# EAGLE library part CON-EDGE-M-16X2 (library Custom)
Male 18x2 PCB Edge connector
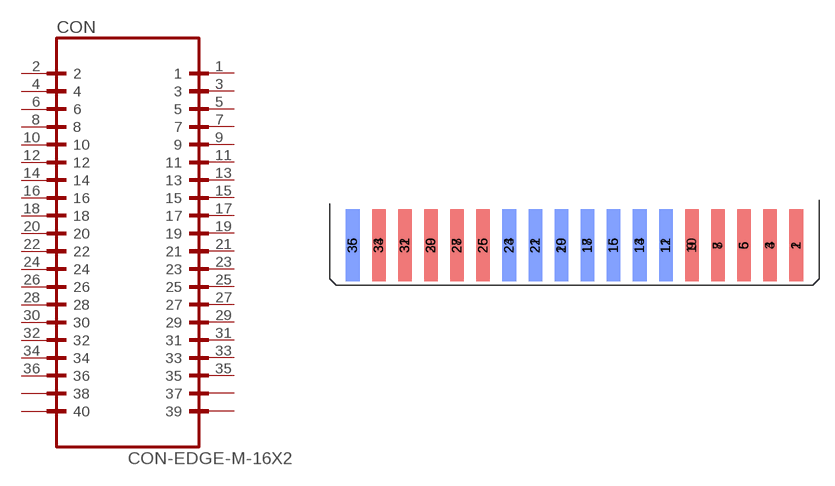
[diagram p0: symbol with the pads of PCB_EDGE_CONNECTOR_16X2; footprint PCB_EDGE_CONNECTOR_16X2]

Designator prefix CON

## CON-EDGE-M-16X2  [PCB_EDGE_CONNECTOR_16X2]
1  1  pwr
2  2  pwr
3  3
4  4
5  5
6  6
7  7
8  8
9  9
10  10
11  11
12  12
13  13
14  14
15  15
16  16
17  17
18  18
19  19  in
20  20  in
21  21  in
22  22  in
23  23  in
24  24  in
25  25  in
26  26  in
27  27  in
28  28  in
29  29  in
30  30  in
31  31  in
32  32  in
33  33  in
34  34  in
35  35  in
36  36  in

## Footprint PCB_EDGE_CONNECTOR_16X2 (pad centres in mm)
smd 1.32 x 7 bottom: 1 21.59,2.603; 3 19.05,2.603; 5 16.51,2.603; 7 13.97,2.603; 9 11.43,2.603; 11 8.89,2.603; 13 6.35,2.603; 15 3.81,2.603; 17 1.27,2.603; 19 -1.27,2.603; 21 -3.81,2.603; 23 -6.35,2.603; 25 -8.89,2.603; 27 -11.43,2.603; 29 -13.97,2.603; 31 -16.51,2.603; 33 -19.05,2.603; 35 -21.59,2.603
smd 1.32 x 7: 2 21.59,2.603; 4 19.05,2.603; 6 16.51,2.603; 8 13.97,2.603; 10 11.43,2.603; 12 8.89,2.603; 14 6.35,2.603; 16 3.81,2.603; 18 1.27,2.603; 20 -1.27,2.603; 22 -3.81,2.603; 24 -6.35,2.603; 26 -8.89,2.603; 28 -11.43,2.603; 30 -13.97,2.603; 32 -16.51,2.603; 34 -19.05,2.603; 36 -21.59,2.603